# Altium footprint library RelayControl.PcbLib: 7 footprints
Each footprint in its own frame and in the unit in brackets; x right, y up, seen from the top. Pads: shape width x height; smd on the part's side, far side on the other; paste and mask are expansions set on the pad; w line width, h text height; cw(c..) or ccw(c..) is an arc to the next point about the centre after c.
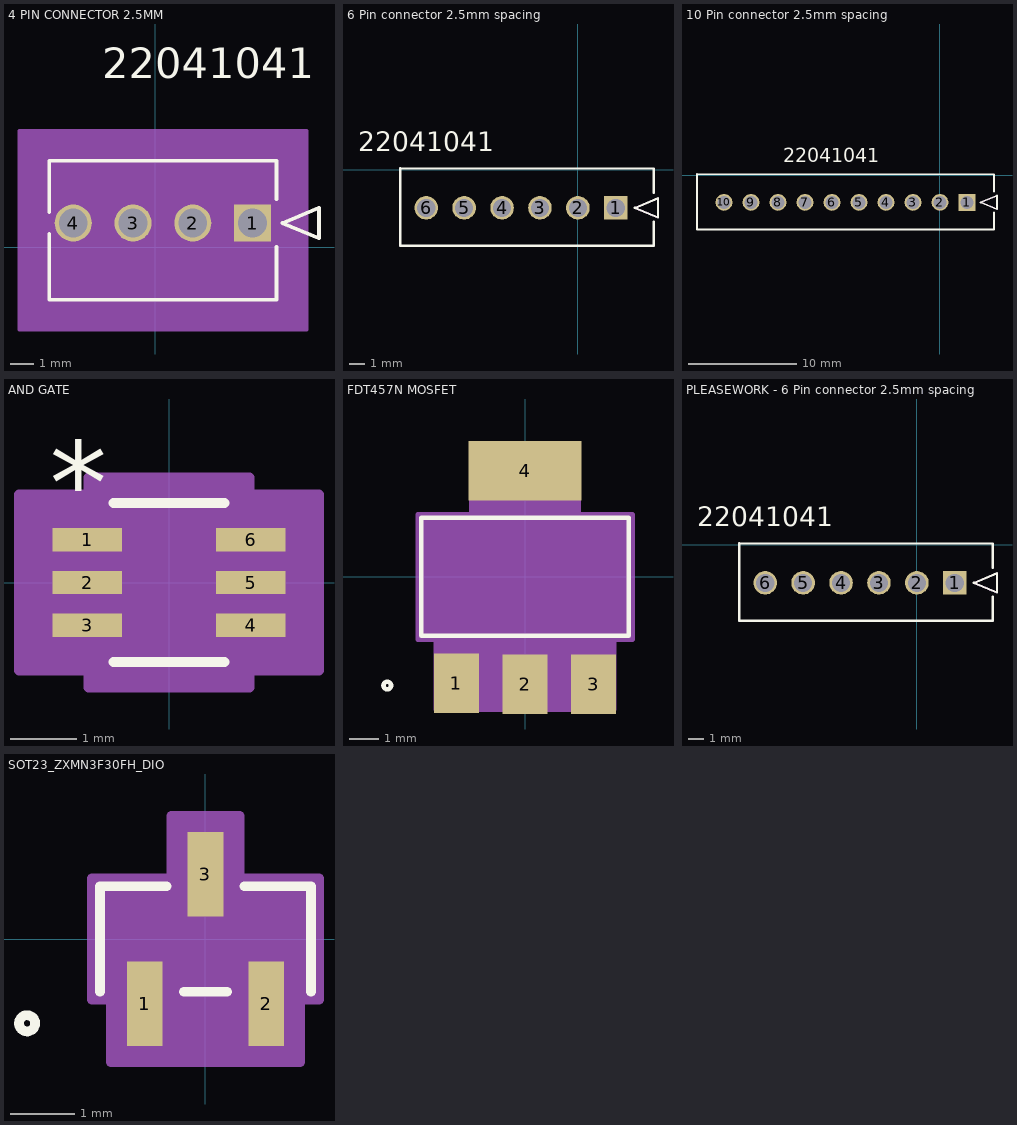
[diagram p0: the footprints below, top view; thin cyan lines are the x and y axes]

## 4 PIN CONNECTOR 2.5MM [mm]
pads (4):
  rect 1.55x1.55 / inner round 1.524 / far side rect 1.55x1.55 hole 1.2 paste-2539.97 mask+0.076: 1(4.064,1.016)
  round 1.55 / inner round 1.524 / far side round 1.55 hole 1.2 paste-2539.97 mask+0.076: 2(1.564,1.016) 3(-0.936,1.016) 4(-3.436,1.016)
Top Overlay:
  lines w0.152: -4.436,0.57 -4.436,-2.184 5.064,-2.184 5.064,0.013 ; -4.436,1.462 -4.436,3.616 5.064,3.616 5.064,2.019 ; 5.318,1.016 6.842,1.651 6.842,0.381 5.318,1.016
  text "22041041" at -2.226,7.066 h1.27
Mechanical 13:
  lines w0.127: -4.436,-2.184 5.064,-2.184 5.064,3.616 -4.436,3.616 -4.436,-2.184 ; 5.318,1.016 6.842,1.651 6.842,0.381 5.318,1.016
  text "22041041" at -2.226,7.066 h1.27
Mechanical 15:
  region: 6.334,4.886 -5.706,4.886 -5.706,-3.454 6.334,-3.454
  lines w0.127: -5.706,-3.454 -5.706,4.886 6.334,4.886 6.334,-3.454 -5.706,-3.454

## 6 Pin connector 2.5mm spacing [mm]
pads (6):
  rect 1.55x1.55 / inner round 1.524 / far side rect 1.55x1.55 hole 1.2 paste-2539.97 mask+0.076: 1(2.5,-2.5)
  round 1.55 / inner round 1.524 / far side round 1.55 hole 1.2 paste-2539.97 mask+0.076: 2(0,-2.5) 3(-2.5,-2.5) 4(-5,-2.5) 5(-7.5,-2.5) 6(-10,-2.5)
Top Overlay:
  lines w0.152: -11.705,-5 -11.705,-2.5 ; -11.705,-2.794 -11.705,0.127 ; -11.684,-5 5,-5 ; -11.684,0.1 5,0.1 5,-1.497 ; 5,-5.013 5,-3.416 ; 3.754,-2.5 5.278,-1.865 5.278,-3.135 3.754,-2.5
  text "22041041" at -14.492,1.23 h1.27
Mechanical 13:
  lines w0.127: 3.754,-2.5 5.278,-3.135 5.278,-1.865 3.754,-2.5
  text "22041041" at -14.492,1.23 h1.27

## 10 Pin connector 2.5mm spacing [mm]
pads (10):
  rect 1.55x1.55 / inner round 1.524 / far side rect 1.55x1.55 hole 1.2 paste-2539.97 mask+0.076: 1(2.5,-2.5)
  round 1.55 / inner round 1.524 / far side round 1.55 hole 1.2 paste-2539.97 mask+0.076: 2(0,-2.5) 3(-2.5,-2.5) 4(-5,-2.5) 5(-7.5,-2.5) 6(-10,-2.5) 7(-12.5,-2.5) 8(-15,-2.5) 9(-17.5,-2.5) 10(-20,-2.5)
Top Overlay:
  lines w0.152: -22.5,-2.794 -22.5,0.127 ; -22.5,-2.5 -22.5,-5 5,-5 ; -22.5,0.1 5,0.1 5,-1.497 ; 5,-5.013 5,-3.416 ; 3.754,-2.5 5.278,-1.865 5.278,-3.135 3.754,-2.5
  text "22041041" at -14.492,1.23 h1.27
Mechanical 13:
  lines w0.127: 3.754,-2.5 5.278,-3.135 5.278,-1.865 3.754,-2.5
  text "22041041" at -14.492,1.23 h1.27

## AND GATE [mil]
pads (6):
  rect 41.5x14 smd paste+0 mask+0: 1(-48.75,25.59) 2(-48.75,0) 3(-48.75,-25.59) 4(48.75,-25.59) 5(48.75,0) 6(48.75,25.59)
Top Overlay:
  lines w6: -33,-47.5 33,-47.5 ; -33,47.5 33,47.5
  text "*" at -71.25,34.59 h50
Mechanical 13:
  lines w0: -12,42.5 ccw(c0,42.5) 12,42.5
  lines w1: -47.5,-31.59 -28,-31.59 -28,-19.59 -47.5,-19.59 -47.5,-31.59 ; -47.5,-6 -28,-6 -28,6 -47.5,6 -47.5,-6 ; -47.5,19.59 -28,19.59 -28,31.59 -47.5,31.59 -47.5,19.59 ; -28,-42.5 -28,42.5 28,42.5 28,-42.5 -28,-42.5 ; 28,-31.59 47.5,-31.59 47.5,-19.59 28,-19.59 28,-31.59 ; 28,-6 47.5,-6 47.5,6 28,6 28,-6 ; 28,19.59 47.5,19.59 47.5,31.59 28,31.59 28,19.59
  text "*" at -25.5,-10.5 h50
Mechanical 15:
  region: -48,-52.59 -89.5,-52.59 -89.5,52.59 -48,52.59 -48,62.5 48,62.5 48,52.59 89.5,52.59 89.5,-52.59 48,-52.59 48,-62.5 -48,-62.5
  lines w6: -89.5,-52.59 -48,-52.59 -48,-62.5 48,-62.5 48,-52.59 89.5,-52.59 89.5,52.59 48,52.59 48,62.5 -48,62.5 -48,52.59 -89.5,52.59 -89.5,-52.59
3D body "DCK6.step": height 43.11, standoff 0, extent -47.52,-42.52 47.52,42.52

## FDT457N MOSFET [mm]
pads (4):
  rect 1.5x2 smd paste+0 mask+0: 1(-2.3,-3.569) 2(0,-3.6) 3(2.3,-3.6)
  rect 3.8x2 smd paste+0 mask+0: 4(0,3.569)
Top Overlay:
  circle w0.152: c-4.623,-3.645 r0.127
  lines w0.152: -3.48,-1.981 3.48,-1.981 3.48,1.981 -3.48,1.981 -3.48,-1.981
Mechanical 13:
  circle w0: c-3.099,-1.6 r0.127
  lines w0.025: -3.353,-1.854 3.353,-1.854 3.353,1.854 -3.353,1.854 -3.353,-1.854 ; -2.745,-3.645 -2.745,-1.854 -1.856,-1.854 -1.856,-3.645 -2.745,-3.645 ; -1.549,1.854 1.549,1.854 1.549,3.645 -1.549,3.645 -1.549,1.854 ; -0.445,-3.645 -0.445,-1.854 0.445,-1.854 0.445,-3.645 -0.445,-3.645 ; 1.856,-3.645 1.856,-1.854 2.745,-1.854 2.745,-3.645 1.856,-3.645
Mechanical 15:
  region: -3.607,-2.108 -3.607,2.108 -1.803,2.108 -1.803,4.458 1.803,4.458 1.803,2.108 3.607,2.108 3.607,-2.108 2.999,-2.108 2.999,-4.458 -2.999,-4.458 -2.999,-2.108
  lines w0.152: -3.607,-2.108 -3.607,2.108 -1.803,2.108 -1.803,4.458 1.803,4.458 1.803,2.108 3.607,2.108 3.607,-2.108 2.999,-2.108 2.999,-4.458 -2.999,-4.458 -2.999,-2.108 -3.607,-2.108
3D body "SOT-223318H_OSI.step": height 1.81, standoff 0, extent -3.353,-3.645 3.353,3.645

## PLEASEWORK - 6 Pin connector 2.5mm spacing [mm]
pads (6):
  rect 1.55x1.55 / inner round 1.524 / far side rect 1.55x1.55 hole 1.2 paste-2539.97 mask+0.076: 1(2.5,-2.5)
  round 1.55 / inner round 1.524 / far side round 1.55 hole 1.2 paste-2539.97 mask+0.076: 2(0,-2.5) 3(-2.5,-2.5) 4(-5,-2.5) 5(-7.5,-2.5) 6(-10,-2.5)
Top Overlay:
  lines w0.152: -11.705,-5 -11.705,-2.5 ; -11.705,-2.794 -11.705,0.127 ; -11.684,-5 5,-5 ; -11.684,0.1 5,0.1 5,-1.497 ; 5,-5.013 5,-3.416 ; 3.754,-2.5 5.278,-1.865 5.278,-3.135 3.754,-2.5
  text "22041041" at -14.492,1.23 h1.27
Mechanical 13:
  lines w0.127: 3.754,-2.5 5.278,-3.135 5.278,-1.865 3.754,-2.5
  text "22041041" at -14.492,1.23 h1.27

## SOT23_ZXMN3F30FH_DIO [mil]
pads (3):
  rect 22x52 smd paste+0 mask+0: 1(-37.5,-40) 2(37.5,-40) 3(0,40)
Top Overlay:
  circle w6: c-110,-52 r5
  lines w6: -65,-32.5 -65,32.5 -24.1,32.5 ; -13.4,-32.5 13.4,-32.5 ; 24.1,32.5 65,32.5 65,-32.5
Mechanical 13:
  circle w0: c-50,-17.5 r5
  lines w1: -60,-27.5 60,-27.5 60,27.5 -60,27.5 -60,-27.5 ; -47.5,-52 -47.5,-27.5 -27.5,-27.5 -27.5,-52 -47.5,-52 ; -10,27.5 10,27.5 10,52 -10,52 -10,27.5 ; 27.5,-52 27.5,-27.5 47.5,-27.5 47.5,-52 27.5,-52
Mechanical 15:
  region: -70,-37.5 -70,37.5 -21,37.5 -21,76 21,76 21,37.5 70,37.5 70,-37.5 58.5,-37.5 58.5,-76 -58.5,-76 -58.5,-37.5
  region: 60,-27.5 -60,-27.5 -60,27.5 60,27.5
  lines w6: -70,-37.5 -70,37.5 -21,37.5 -21,76 21,76 21,37.5 70,37.5 70,-37.5 58.5,-37.5 58.5,-76 -58.5,-76 -58.5,-37.5 -70,-37.5
3D body "SOT23_ZXMN3F30FH_DIO.step": height 44.09, standoff 0, extent -60,-52.01 60,52.01